# EAGLE library part MC6-G (library con-phoenix-381_l)
Mini-Combicon 3.81mm horizontal 6-polig MC 1,5/6-G-3,81 Artikel-Nr. 1803331 mit Gegenstecker MC 1,5/6-ST-3,81 Artikel-Nr. 1803617
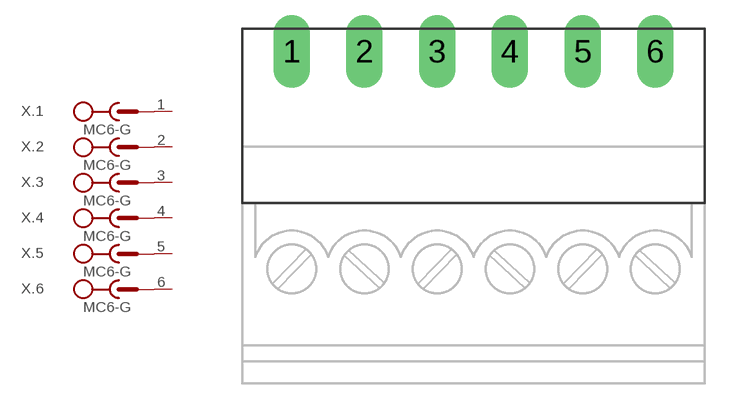
[diagram p13: symbol with the pads of MC6-G; footprint MC6-G]

Designator prefix X; gates .1=SK+V .2=SK+V .3=SK+V .4=SK+V .5=SK+V .6=SK+V

## MC6-G  [MC6-G]
1  .1:SK  pas
2  .2:SK  pas
3  .3:SK  pas
4  .4:SK  pas
5  .5:SK  pas
6  .6:SK  pas

## Footprint MC6-G (pad centres in mm)
Mini-Combicon 3.81mm horizontal 6-polig MC 1,5/6-G-3,81 Artikel-Nr. 1803331 mit Gegenstecker MC 1,5/6-ST-3,81 Artikel-Nr. 1803617
drill 1.27 long: 1 -9.525,0; 2 -5.715,0; 3 -1.905,0; 4 1.905,0; 5 5.715,0; 6 9.525,0